# Altium schematic symbol library rf_components.SchLib: 7 symbols
Pins are listed as number, name and electrical type; pins without a type are passive.

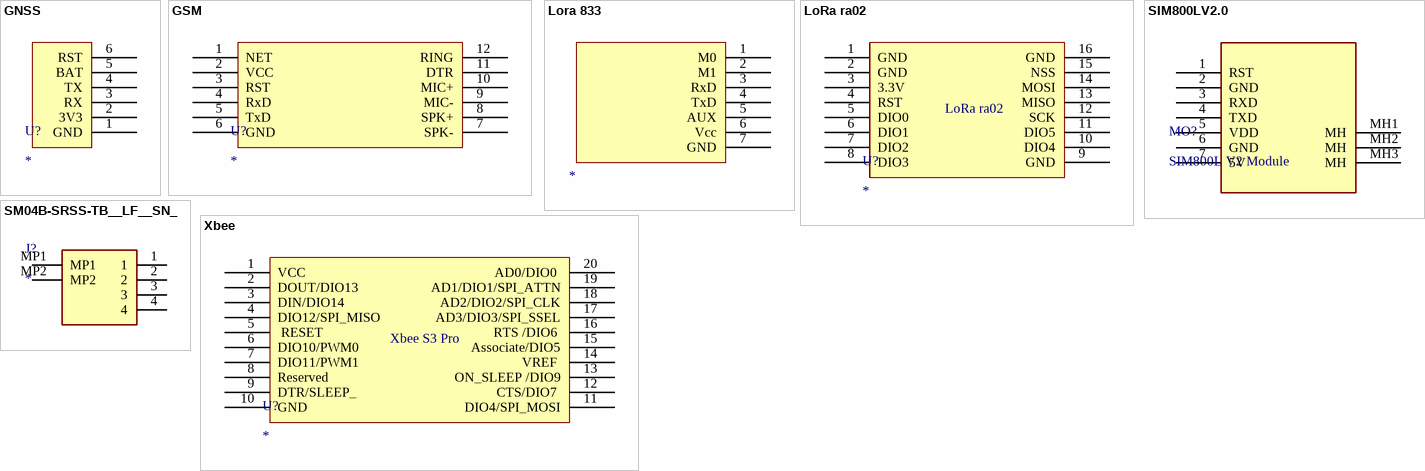
[diagram p0: symbols GNSS to Xbee]

## GNSS
designator U?
footprint GNSS
pins: 1 GND, 2 3V3, 3 RX, 4 TX, 5 BAT, 6 RST

## GSM
designator U?
footprint GSM
pins: 1 NET, 2 VCC, 3 RST, 4 RxD, 5 TxD, 6 GND, 7 SPK-, 8 SPK+, 9 MIC-, 10 MIC+, 11 DTR, 12 RING

## Lora 833
designator ?
footprint Lora 833
pins: 1 M0, 2 M1, 3 RxD, 4 TxD, 5 AUX, 6 Vcc, 7 GND

## LoRa ra02
designator U?
gg
footprint LoRa
pins: 1 GND, 2 GND, 3 3.3V, 4 RST, 5 DIO0, 6 DIO1, 7 DIO2, 8 DIO3, 9 GND, 10 DIO4, 11 DIO5, 12 SCK, 13 MISO, 14 MOSI, 15 NSS, 16 GND

## SIM800LV2.0
designator MO?, comment SIM800L V2 Module
GSM Module
footprint SIM800LV2.0
pins: 1 RST, 2 GND, 3 RXD, 4 TXD, 5 VDD, 6 GND, 7 5V, MH1 MH, MH2 MH, MH3 MH

## SM04B-SRSS-TB__LF__SN_
designator J?
Connector; Manufacturer_Name: JST (JAPAN SOLDERLESS TERMINALS); Manufacturer_Part_Number: SM04B-SRSS-TB (LF)(SN); Datasheet Link: https://www.jst-mfg.com/product/pdf/eng/eSH.pdf; Height: 2.9mm
footprint SM04BSRSSTBLFSN
pins: 1, 2, 3, 4, MP1, MP2

## Xbee
designator U?
footprint Xbee
pins: 1 VCC, 2 DOUT/DIO13, 3 DIN/DIO14, 4 DIO12/SPI_MISO, 5  RESET, 6 DIO10/PWM0, 7 DIO11/PWM1 , 8 Reserved , 9 DTR/SLEEP_, 10 GND , 11 DIO4/SPI_MOSI, 12 CTS/DIO7 , 13 ON_SLEEP /DIO9, 14 VREF , 15 Associate/DIO5, 16 RTS /DIO6 , 17 AD3/DIO3/SPI_SSEL, 18 AD2/DIO2/SPI_CLK, 19 AD1/DIO1/SPI_ATTN, 20 AD0/DIO0 
text: Xbee S3 Pro